# Altium schematic symbol library IC. Other.SchLib: 2 symbols
Pins are listed as number, name and electrical type; pins without a type are passive.

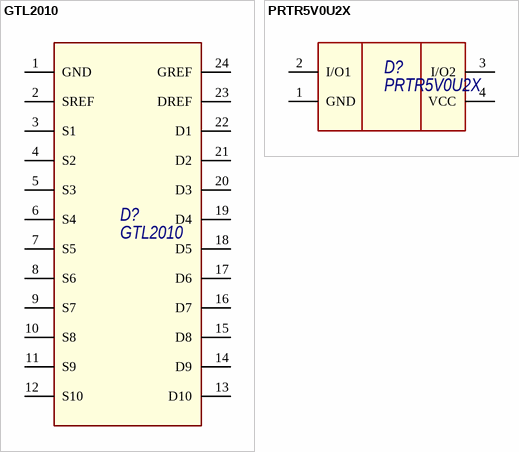
[diagram p0: symbols GTL2010 to PRTR5V0U2X]

## GTL2010
designator D?
footprint 24-TSSOP (pitch 0.65 mm)
footprint 24-QFN (4x4 mm, pitch 0.5 mm, power pad)
pins: 1 GND, 2 SREF, 3 S1, 4 S2, 5 S3, 6 S4, 7 S5, 8 S6, 9 S7, 10 S8, 11 S9, 12 S10, 13 D10, 14 D9, 15 D8, 16 D7, 17 D6, 18 D5, 19 D4, 20 D3, 21 D2, 22 D1, 23 DREF, 24 GREF

## PRTR5V0U2X
designator D?
footprint SOT-143B
pins: 1 GND, 2 I/O1, 3 I/O2, 4 VCC